# Altium schematic symbol library Diodes.SchLib: 2 symbols
Pins are listed as number, name and electrical type; pins without a type are passive.

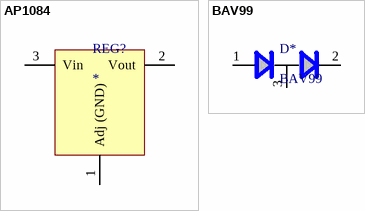
[diagram p0: symbols AP1084 to BAV99]

## AP1084
designator REG?
5A LOW DROPOUT POSITIVE ADJUSTABLE OR  FIXED-MODE REGULATOR
footprint TO-220
pins: 1 Adj (GND), 2 Vout, 3 Vin

## BAV99
designator D*
Dual Surface Mount Switching Diode; Digikey Part #: BAV99-FDICT-ND
footprint SOT-23 (SOT23, 3-Leads, Body 3.0x2.5mm (max), Pitch 0.95mm, IPC Medium Density)
pins: 1, 2, 3